# EAGLE library part EURORACK-POWER-16 (library BBALES-TB)
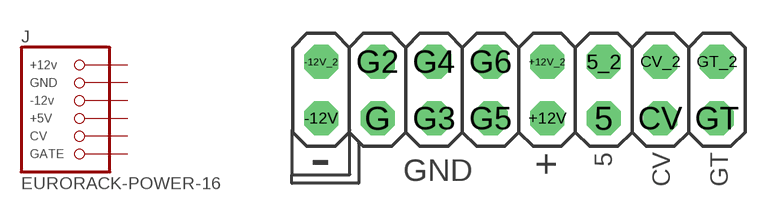
[diagram p2: symbol with the pads of EURORACK-POWER-16; footprint EURORACK-POWER-16]

Designator prefix J

## EURORACK-POWER-16  [EURORACK-POWER-16]
5  +5V  pas
5_2  +5V  pas
+12V  +12V  pas
+12V_2  +12V  pas
-12V  -12V  pas
-12V_2  -12V  pas
CV  CV  pas
CV_2  CV  pas
G  GND  pas
G2  GND  pas
G3  GND  pas
G4  GND  pas
G5  GND  pas
G6  GND  pas
GT  GATE  pas
GT_2  GATE  pas

## Footprint EURORACK-POWER-16 (pad centres in mm)
PIN HEADER
drill 1.016 octagon: 5 3.81,-1.27; 5_2 3.81,1.27; +12V 1.27,-1.27; +12V_2 1.27,1.27; -12V -8.89,-1.27; -12V_2 -8.89,1.27; CV 6.35,-1.27; CV_2 6.35,1.27; G -6.35,-1.27; G2 -6.35,1.27; G3 -3.81,-1.27; G4 -3.81,1.27; G5 -1.27,-1.27; G6 -1.27,1.27; GT 8.89,-1.27; GT_2 8.89,1.27